# EAGLE library part SN74F151BDR (library Tic-Tac-Toe_Component)
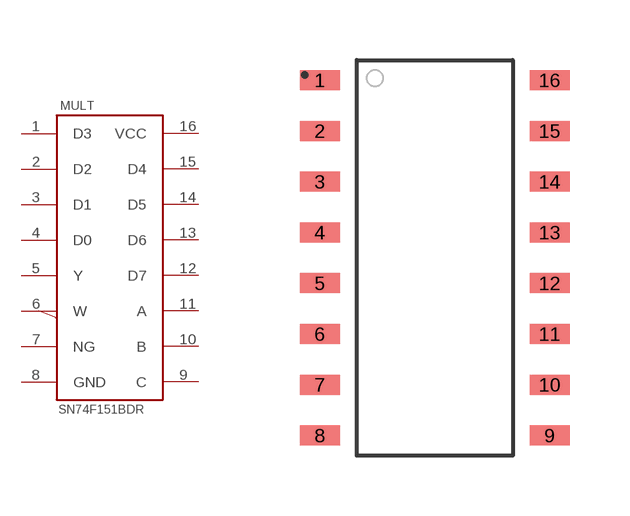
[diagram p0: symbol with the pads of SN74F151B-MULT; footprint SN74F151B-MULT]

Designator prefix MULT

## SN74F151BDR  [SN74F151B-MULT]
1  D3  in
2  D2  in
3  D1  in
4  D0  in
5  Y  out
6  W  out
7  NG  in
8  GND  pwr
9  C  in
10  B  in
11  A  in
12  D7  in
13  D6  in
14  D5  in
15  D4  in
16  VCC  pwr

## Footprint SN74F151B-MULT (pad centres in mm)
smd 1 x 0.5: 1 -2.875,4.445; 2 -2.875,3.175; 3 -2.875,1.905; 4 -2.875,0.635; 5 -2.875,-0.635; 6 -2.875,-1.905; 7 -2.875,-3.175; 8 -2.875,-4.445; 9 2.875,-4.445; 10 2.875,-3.175; 11 2.875,-1.905; 12 2.875,-0.635; 13 2.875,0.635; 14 2.875,1.905; 15 2.875,3.175; 16 2.875,4.445